# EAGLE library part 754410 (library DISEÑOS)
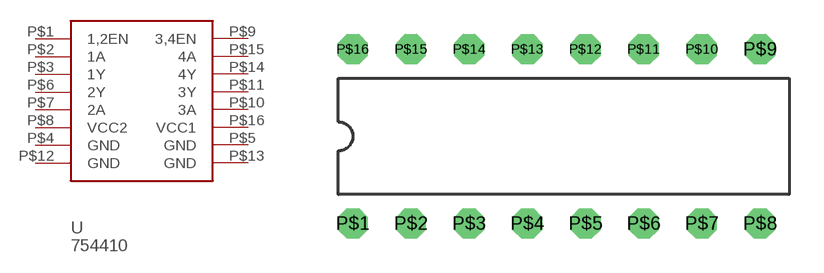
[diagram p0: symbol with the pads of DIL-16; footprint DIL-16]

Designator prefix -

## 754410  [DIL-16]
P$1  1,2EN  in
P$2  1A  in
P$3  1Y  out
P$4  GND
P$5  GND
P$6  2Y  out
P$7  2A  in
P$8  VCC2
P$9  3,4EN  in
P$10  3A  in
P$11  3Y  out
P$12  GND
P$13  GND
P$14  4Y  out
P$15  4A  in
P$16  VCC1

## Footprint DIL-16 (pad centres in mm)
drill 0.8 octagon: P$1 -10.16,-3.81; P$2 -7.62,-3.81; P$3 -5.08,-3.81; P$4 -2.54,-3.81; P$5 0,-3.81; P$6 2.54,-3.81; P$7 5.08,-3.81; P$8 7.62,-3.81; P$9 7.62,3.81; P$10 5.08,3.81; P$11 2.54,3.81; P$12 0,3.81; P$13 -2.54,3.81; P$14 -5.08,3.81; P$15 -7.62,3.81; P$16 -10.16,3.81